# EAGLE library part 16F628 (library pic16f6xx)
Microchip component PIC 16F628 Eric Magraner - eric_magraner@yahoo.fr 03/2004
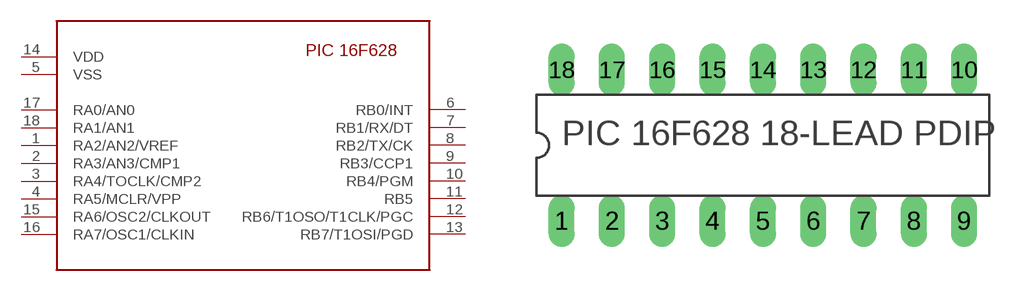
[diagram p0: symbol with the pads of PIC16F628-18-LEAD-PDIP; footprint PIC16F628-18-LEAD-PDIP]

Designator prefix -

## 16F628  [PIC16F628-18-LEAD-PDIP]
1  RA2/AN2/VREF
2  RA3/AN3/CMP1
3  RA4/TOCLK/CMP2
4  RA5/MCLR/VPP
5  VSS  in
6  RB0/INT
7  RB1/RX/DT
8  RB2/TX/CK
9  RB3/CCP1
10  RB4/PGM
11  RB5
12  RB6/T1OSO/T1CLK/PGC
13  RB7/T1OSI/PGD
14  VDD  in
15  RA6/OSC2/CLKOUT
16  RA7/OSC1/CLKIN
17  RA0/AN0
18  RA1/AN1

## Footprint PIC16F628-18-LEAD-PDIP (pad centres in mm)
Dual In Line package type P Microchip component PIC 16F628 Eric Magraner - eric_magraner@yahoo.fr 03/2004
drill 0.813 long: 1 -10.16,-3.81; 2 -7.62,-3.81; 3 -5.08,-3.81; 4 -2.54,-3.81; 5 0,-3.81; 6 2.54,-3.81; 7 5.08,-3.81; 8 7.62,-3.81; 9 10.16,-3.81; 10 10.16,3.81; 11 7.62,3.81; 12 5.08,3.81; 13 2.54,3.81; 14 0,3.81; 15 -2.54,3.81; 16 -5.08,3.81; 17 -7.62,3.81; 18 -10.16,3.81